# EAGLE library part 643270100308 (library WR-CIRC)
WR-CIRCM12 Screw Mating Panel Connector PCB Angled 90° Metal M12 Kind Properties Gender Male Packaging Properties Packaging Tray Electrical Properties IR 2 A; 5 A Working Voltage 30 V; 60 V; 250 V Withstanding Voltage 650 V (AC); 1000 V (AC); 1400 V (AC) Contact Resistance Initial 10 mΩ RISO 100 MΩ General Information Durability 100 Mating cycles Ingress Protection Code IP68 Operating Temperature -40 up to +90 °C Material Properties Insulator Material PA66 Insulator Flammability Rating UL94 V-0 Insulator Color Black Contact Material Copper Alloy Contact Plating Gold <https://www.we-online.com/components/media/o722372v209%20family-wr-circm12-6432701003xx.jpg> Details see: www.we-online.com/en/components/products/WR-CIRCM12_PANEL_CONNECTOR_PCB_ANGLED_90_METAL_M12 Created by Ella 2023-11-30 2023 (C) Würth Elektronik
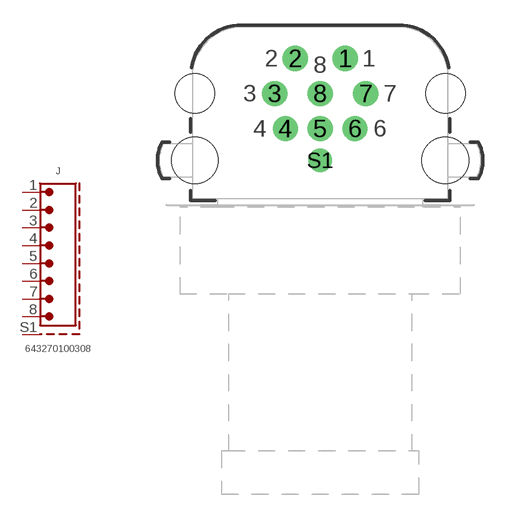
[diagram p0: symbol with the pads of 643270100308; footprint 643270100308]

Designator prefix J

## 643270100308 (DATASHEET-URL: https://www.we-online.com/redexpert/spec/643270100308?ae; GENDER: Male; MOUNT: THT; PART-NUMBER: 643270100308; POLARITY: 8; RATED-CURRENT: 2A; RISO: 100 MO; VALUE: 643270100308; WITHSTANDING-VOLTAGE: 650V(AC); WORKING-VOLTAGE: 30V)  [643270100308]
1  1  pas
2  2  pas
3  3  pas
4  4  pas
5  5  pas
6  6  pas
7  7  pas
8  8  pas
S1  SHIELD  pas

## Footprint 643270100308 (pad centres in mm)
WR-CIRCM12 Screw Mating Panel Connector PCB Angled 90° Metal M12 THT, 8pins
drill 1: 1 1.5,2.1; 2 -1.5,2.1; 3 -2.725,0; 4 -2.08,-2.1; 5 0,-2.1; 6 2.08,-2.1; 7 2.725,0; 8 0,0
drill 0.9: S1 0,-4
hole 2.35 at -7.5,0
hole 2.35 at 7.5,0
hole 2.8 at -7.5,-4
hole 2.8 at 7.5,-4